# EAGLE library part LTC3586 (library regulator)
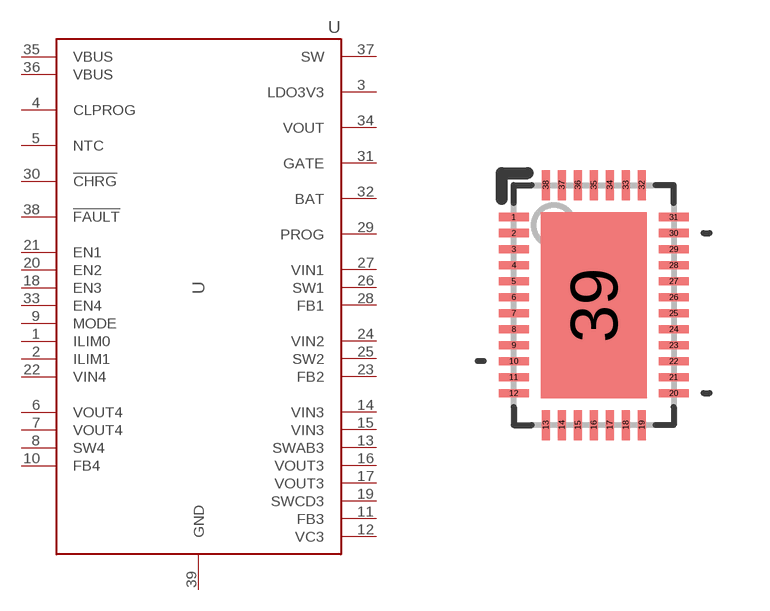
[diagram p0: symbol with the pads of QFN40P600X400X75-39N; footprint QFN40P600X400X75-39N]

Designator prefix U

## LTC3586  [QFN40P600X400X75-39N]
1  ILIM0  in
2  ILIM1  in
3  LDO3V3  out
4  CLPROG  in
5  NTC  in
6  VOUT4  out
7  VOUT4  out
8  SW4  out
9  MODE  in
10  FB4  in
11  FB3  in
12  VC3  out
13  SWAB3  out
14  VIN3  in
15  VIN3  in
16  VOUT3  out
17  VOUT3  out
18  EN3  in
19  SWCD3  out
20  EN2  in
21  EN1  in
22  VIN4  in
23  FB2  in
24  VIN2  in
25  SW2  out
26  SW1  out
27  VIN1  in
28  FB1  in
29  PROG  out
30  !CHRG  oc
31  GATE  out
32  BAT
33  EN4  in
34  VOUT  out
35  VBUS  in
36  VBUS  in
37  SW  out
38  !FAULT  oc
39  GND  pwr

## Footprint QFN40P600X400X75-39N (pad centres in mm)
smd 0.75 x 0.2: 1 -2,2.2; 2 -2,1.8; 3 -2,1.4; 4 -2,1; 5 -2,0.6; 6 -2,0.2; 7 -2,-0.2; 8 -2,-0.6; 9 -2,-1; 10 -2,-1.4; 11 -2,-1.8; 12 -2,-2.2; 20 2,-2.2; 21 2,-1.8; 22 2,-1.4; 23 2,-1; 24 2,-0.6; 25 2,-0.2; 26 2,0.2; 27 2,0.6; 28 2,1; 29 2,1.4; 30 2,1.8; 31 2,2.2
smd 0.2 x 0.75: 13 -1.2,-3; 14 -0.8,-3; 15 -0.4,-3; 16 0,-3; 17 0.4,-3; 18 0.8,-3; 19 1.2,-3; 32 1.2,3; 33 0.8,3; 34 0.4,3; 35 0,3; 36 -0.4,3; 37 -0.8,3; 38 -1.2,3
smd 2.65 x 4.65: 39 0,0